# EAGLE library part MPU6050 (library elem)
Package for schematics only.
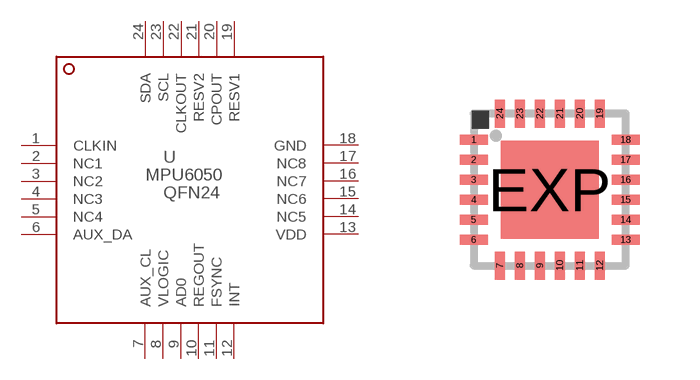
[diagram p1: symbol with the pads of QFN24-4X4; footprint QFN24-4X4]

Designator prefix -

## MPU6050  [QFN24-4X4]
1  CLKIN  in
2  NC1  nc
3  NC2  nc
4  NC3  nc
5  NC4  nc
6  AUX_DA
7  AUX_CL
8  VLOGIC  pwr
9  AD0  in
10  REGOUT
11  FSYNC
12  INT  out
13  VDD  pwr
14  NC5  nc
15  NC6  nc
16  NC7  nc
17  NC8  nc
18  GND  pwr
19  RESV1  nc
20  CPOUT
21  RESV2  nc
22  CLKOUT
23  SCL  in
24  SDA

## Footprint QFN24-4X4 (pad centres in mm)
UF Package 24-Lead (4mm × 4mm) Plastic QFN Source: http://cds.linear.com/docs/Datasheet/5598f.pdf
smd 0.7 x 0.25: 1 -1.9,1.25; 2 -1.9,0.75; 3 -1.9,0.25; 4 -1.9,-0.25; 5 -1.9,-0.75; 6 -1.9,-1.25; 13 1.9,-1.25; 14 1.9,-0.75; 15 1.9,-0.25; 16 1.9,0.25; 17 1.9,0.75; 18 1.9,1.25
smd 0.25 x 0.7: 7 -1.25,-1.9; 8 -0.75,-1.9; 9 -0.25,-1.9; 10 0.25,-1.9; 11 0.75,-1.9; 12 1.25,-1.9; 19 1.25,1.9; 20 0.75,1.9; 21 0.25,1.9; 22 -0.25,1.9; 23 -0.75,1.9; 24 -1.25,1.9
smd 2.45 x 2.45: EXP 0,0